# Altium schematic symbol library schLIB.SCHLIB: 48 symbols
Pins are listed as number, name and electrical type; pins without a type are passive.

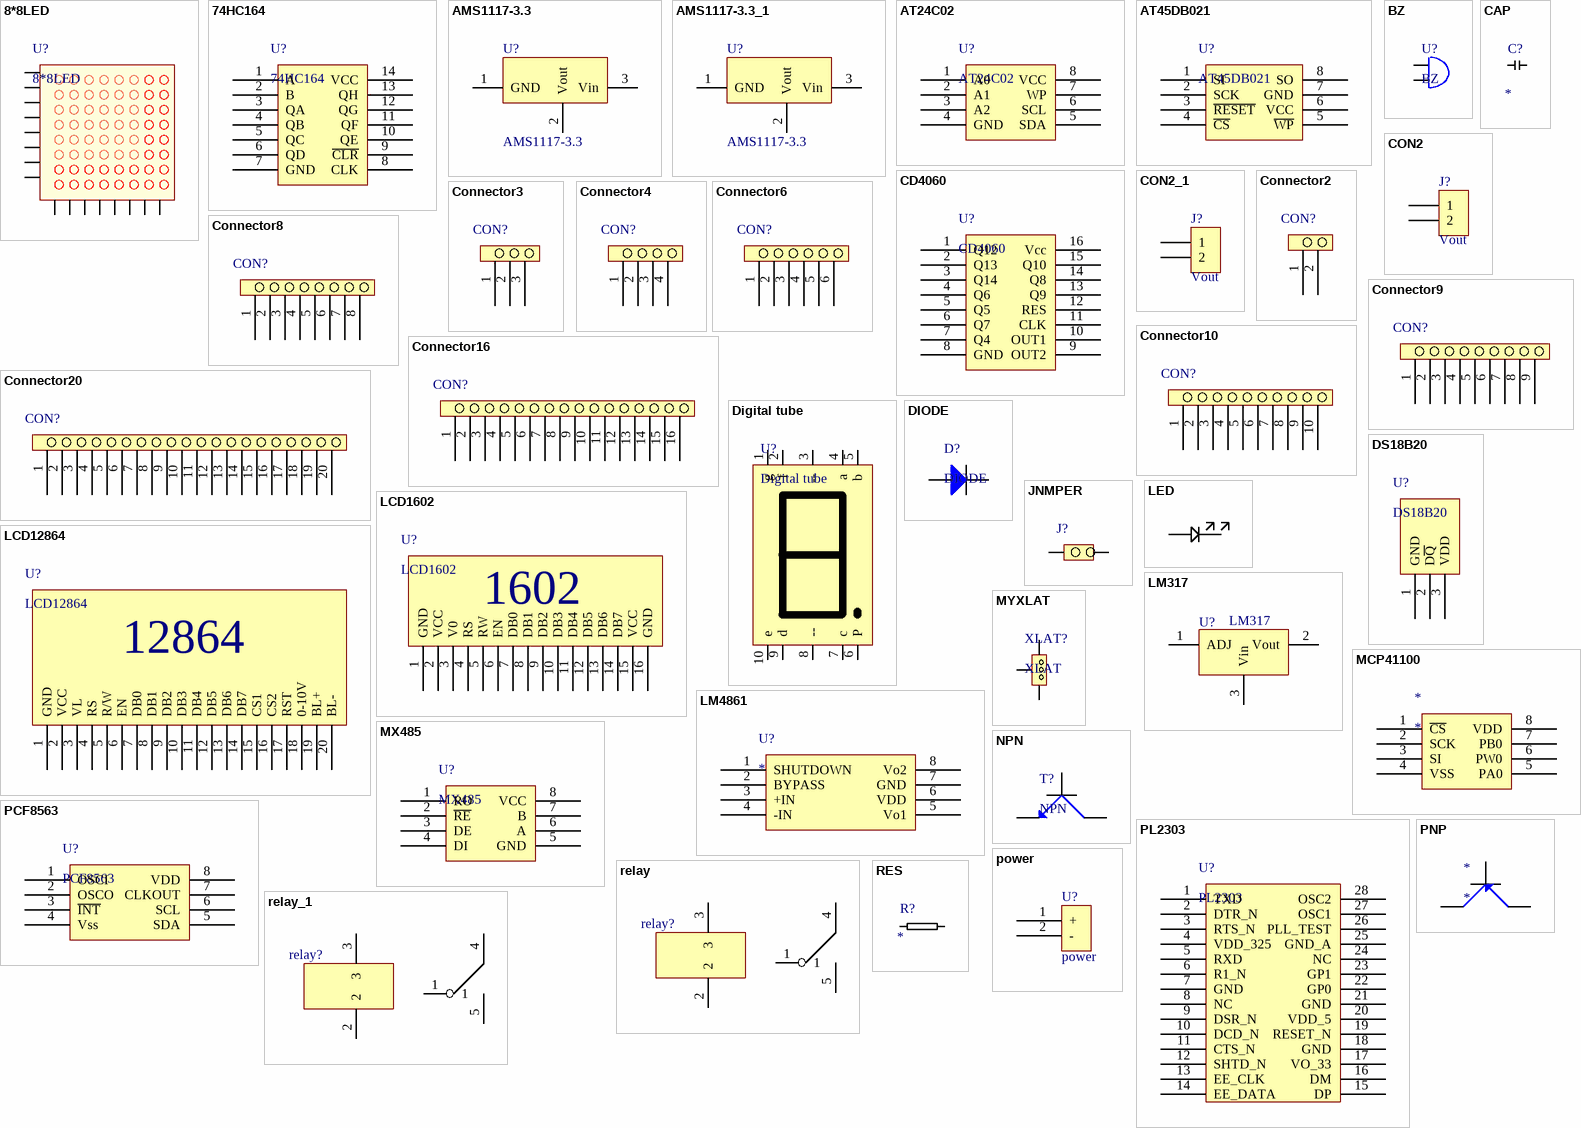
[diagram p0: symbols 8*8LED to RES]

## 8*8LED
designator U?
footprint 8*8LED
pins: 1, 2, 3, 4, 5, 6, 7, 8, 9, 10, 11, 12, 13, 14, 15, 16

## 74HC164
designator U?
footprint DIP14
pins: 1 A, 2 B, 3 QA, 4 QB, 5 QC, 6 QD, 7 GND, 8 CLK, 9 ~{CLR}, 10 QE, 11 QF, 12 QG, 13 QH, 14 VCC

## AMS1117-3.3
designator U?
footprint SOT223
pins: 1 GND, 2 Vout, 3 Vin

## AMS1117-3.3_1
designator U?, comment AMS1117-3.3
footprint SOT223
pins: 1 GND, 2 Vout, 3 Vin

## AT24C02
designator U?
footprint DIP8
pins: 1 A0, 2 A1, 3 A2, 4 GND, 5 SDA, 6 SCL, 7 WP, 8 VCC

## AT45DB021
designator U?
footprint SOIC28
pins: 1 SI, 2 SCK, 3 ~{RESET}, 4 ~{CS}, 5 ~{WP}, 6 VCC, 7 GND, 8 SO

## BZ
designator U?
pins: 1, 2

## CAP
designator C?  (value not drawn)
VALUE: *
footprint 0805
pins: 1, 2

## CD4060
designator U?
footprint DIP16
pins: 1 Q12, 2 Q13, 3 Q14, 4 Q6, 5 Q5, 6 Q7, 7 Q4, 8 GND, 9 OUT2, 10 OUT1, 11 CLK, 12 RES, 13 Q9, 14 Q8, 15 Q10, 16 Vcc

## CON2
designator J?, comment Vout
Connector
footprint SIP2
pins: 1, 2

## CON2_1
designator J?, comment Vout
Connector
footprint SIP2
pins: 1, 2

## Connector2
designator CON?  (value not drawn)
footprint SIP3
pins: 1, 2

## Connector3
designator CON?  (value not drawn)
footprint SIP3
pins: 1, 2, 3

## Connector4
designator CON?  (value not drawn)
footprint SIP4
pins: 1, 2, 3, 4

## Connector6
designator CON?  (value not drawn)
footprint SIP6
pins: 1, 2, 3, 4, 5, 6

## Connector8
designator CON?  (value not drawn)
footprint SIP4
pins: 1, 2, 3, 4, 5, 6, 7, 8

## Connector9
designator CON?  (value not drawn)
footprint SIP4
pins: 1, 2, 3, 4, 5, 6, 7, 8, 9

## Connector10
designator CON?  (value not drawn)
footprint SIP4
pins: 1, 2, 3, 4, 5, 6, 7, 8, 9, 10

## Connector16
designator CON?  (value not drawn)
footprint SIP4
pins: 1, 2, 3, 4, 5, 6, 7, 8, 9, 10, 11, 12, 13, 14, 15, 16

## Connector20
designator CON?  (value not drawn)
footprint SIP4
pins: 1, 2, 3, 4, 5, 6, 7, 8, 9, 10, 11, 12, 13, 14, 15, 16, 17, 18, 19, 20

## Digital tube
designator U?
footprint Digital tube
pins: 1 g, 2 f, 3 --, 4 a, 5 b, 6 P, 7 c, 8 --, 9 d, 10 e

## DIODE
designator D?
pins: 1, 2

## DS18B20
designator U?
pins: 1 GND, 2 D~{Q}, 3 VDD

## JNMPER
designator J?, comment JUMPER  (value not drawn)
footprint jumper
pins: 1, 2

## LCD1602
designator U?
pins: 1 GND, 2 VCC, 3 V0, 4 RS, 5 RW, 6 EN, 7 DB0, 8 DB1, 9 DB2, 10 DB3, 11 DB4, 12 DB5, 13 DB6, 14 DB7, 15 VCC, 16 GND
text: 1602

## LCD12864
designator U?
pins: 1 GND, 2 VCC, 3 VL, 4 RS, 5 R/W, 6 EN, 7 DB0, 8 DB1, 9 DB2, 10 DB3, 11 DB4, 12 DB5, 13 DB6, 14 DB7, 15 CS1, 16 CS2, 17 RST, 18 0-10V, 19 BL+, 20 BL-
text: 12864

## LED
designator LED?  (value not drawn)
footprint LEDpower
pins: 1, 2

## LM317
designator U?
3-Terminal Adjustable Positive Voltage Regulator
simulation model LM317 (SUBCKT)
footprint TO-126
pins: 1 ADJ, 2 Vout, 3 Vin

## LM4861
designator U?
footprint SOP8
pins: 1 SHUTDOWN, 2 BYPASS, 3 +IN, 4 -IN, 5 Vo1, 6 VDD, 7 GND, 8 Vo2

## MCP41100
designator *
pins: 1 ~{CS}, 2 SCK, 3 SI, 4 VSS, 5 PA0, 6 PW0, 7 PB0, 8 VDD

## MX485
designator U?
footprint DIP8L (Footprint not found)
pins: 1 RO, 2 ~{RE}, 3 DE, 4 DI, 5 GND, 6 A, 7 B, 8 VCC

## MYXLAT
designator XLAT?, comment XLAT
VALUE: *
pins: 1, 2, ?1

## NPN
designator T?
pins: 1, 2, 3

## PCF8563
designator U?
footprint SOP8
pins: 1 OSCI, 2 OSCO, 3 ~{INT}, 4 Vss, 5 SDA, 6 SCL, 7 CLKOUT, 8 VDD

## PL2303
designator U?
pins: 1 TXD, 2 DTR_N, 3 RTS_N, 4 VDD_325, 5 RXD, 6 R1_N, 7 GND, 8 NC, 9 DSR_N, 10 DCD_N, 11 CTS_N, 12 SHTD_N, 13 EE_CLK, 14 EE_DATA, 15 DP, 16 DM, 17 VO_33, 18 GND, 19 RESET_N, 20 VDD_5, 21 GND, 22 GP0, 23 GP1, 24 NC, 25 GND_A, 26 PLL_TEST, 27 OSC1, 28 OSC2

## PNP
designator *
pins: 1, 2, 3

## power
designator U?
footprint power (Footprint not found)
pins: 1 +, 2 -

## relay
designator relay?  (value not drawn)
pins: 1, 2, 3, 4, 5

## relay_1
designator relay?, comment relay  (value not drawn)
pins: 1, 2, 3, 4, 5

## RES
designator R?, comment RESISTOR  (value not drawn)
VALUE: *
footprint 0805
pins: 1, 2

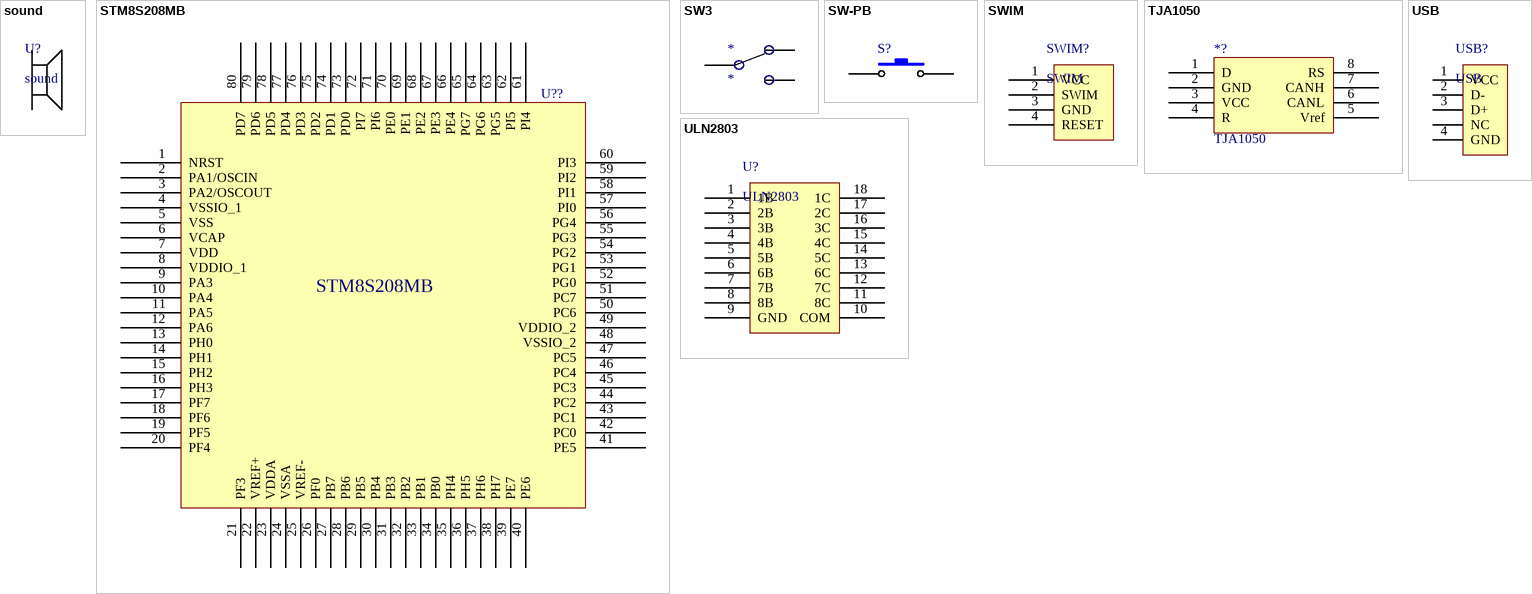
[diagram p1: symbols sound to USB]

## sound
designator U?
footprint head2
pins: 1, 2

## STM8S208MB
designator U??  (value not drawn)
footprint LQFP80 (LQFP, 80-Leads, Body 16.2x16.2mm (max), Pitch 0.65mm, IPC Medium Density)
pins: 1 NRST, 2 PA1/OSCIN, 3 PA2/OSCOUT, 4 VSSIO_1, 5 VSS, 6 VCAP, 7 VDD, 8 VDDIO_1, 9 PA3, 10 PA4, 11 PA5, 12 PA6, 13 PH0, 14 PH1, 15 PH2, 16 PH3, 17 PF7, 18 PF6, 19 PF5, 20 PF4, 21 PF3, 22 VREF+, 23 VDDA, 24 VSSA, 25 VREF-, 26 PF0, 27 PB7, 28 PB6, 29 PB5, 30 PB4, 31 PB3, 32 PB2, 33 PB1, 34 PB0, 35 PH4, 36 PH5, 37 PH6, 38 PH7, 39 PE7, 40 PE6, 41 PE5, 42 PC0, 43 PC1, 44 PC2, 45 PC3, 46 PC4, 47 PC5, 48 VSSIO_2, 49 VDDIO_2, 50 PC6, 51 PC7, 52 PG0, 53 PG1, 54 PG2, 55 PG3, 56 PG4, 57 PI0, 58 PI1, 59 PI2, 60 PI3, 61 PI4, 62 PI5, 63 PG5, 64 PG6, 65 PG7, 66 PE4, 67 PE3, 68 PE2, 69 PE1, 70 PE0, 71 PI6, 72 PI7, 73 PD0, 74 PD1, 75 PD2, 76 PD3, 77 PD4, 78 PD5, 79 PD6, 80 PD7

## SW3
designator *
pins: 1, 2, 3

## SW-PB
designator S?  (value not drawn)
Switch; Published: 24-Mar-1999; LatestRevisionDate: 17-Jul-2002; LatestRevisionNote: Re-released for DXP Platform.; PackageReference: SPST-2; Publisher: Altium Limited
footprint SW-PB
pins: 1, 2

## SWIM
designator SWIM?
pins: 1 VCC, 2 SWIM, 3 GND, 4 RESET

## TJA1050
designator *?
pins: 1 D, 2 GND, 3 VCC, 4 R, 5 Vref, 6 CANL, 7 CANH, 8 RS

## ULN2803
designator U?
footprint DIP18
pins: 1 1B, 2 2B, 3 3B, 4 4B, 5 5B, 6 6B, 7 7B, 8 8B, 9 GND, 10 COM, 11 8C, 12 7C, 13 6C, 14 5C, 15 4C, 16 3C, 17 2C, 18 1C

## USB
designator USB?
pins: 1 VCC, 2 D-, 3 D+, 4 GND, ?1 NC